# EAGLE library part MP3_MODULE (library MIA_LIBRARY-2-2)
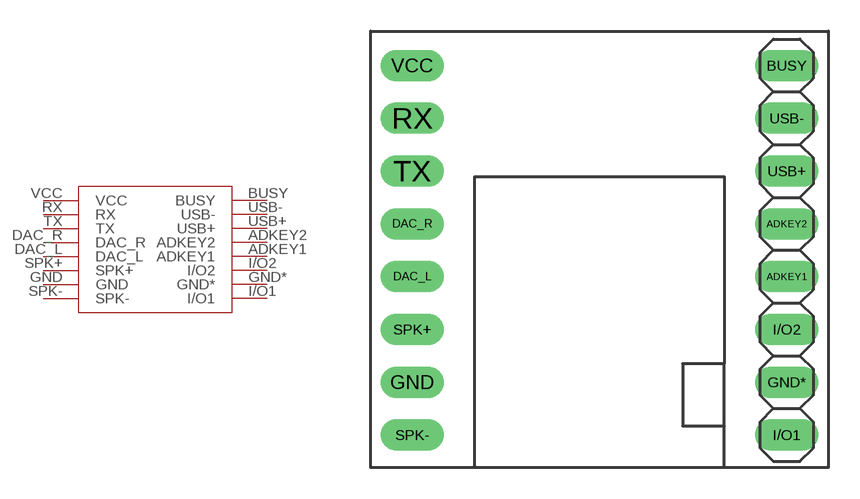
[diagram p68: symbol with the pads of MP3_MODULE; footprint MP3_MODULE]

Designator prefix -

## MP3_MODULE  [MP3_MODULE]
ADKEY1  ADKEY1
ADKEY2  ADKEY2
BUSY  BUSY
DAC_L  DAC_L
DAC_R  DAC_R
GND  GND
GND*  GND*
I/O1  I/O1
I/O2  I/O2
RX  RX
SPK+  SPK+
SPK-  SPK-
TX  TX
USB+  USB+
USB-  USB-
VCC  VCC

## Footprint MP3_MODULE (pad centres in mm)
drill 1.016 long: ADKEY1 10,-0.81; ADKEY2 10,1.73; BUSY 10,9.35; DAC_L -8,-0.81; DAC_R -8,1.73; GND -8,-5.89; GND* 10,-5.89; I/O1 10,-8.43; I/O2 10,-3.35; RX -8,6.81; SPK+ -8,-3.35; SPK- -8,-8.43; TX -8,4.27; USB+ 10,4.27; USB- 10,6.81; VCC -8,9.35